# Altium footprint library connector_rjhse-x38x-02.PcbLib: 1 footprints
Each footprint in its own frame and in the unit in brackets; x right, y up, seen from the top. Pads: shape width x height; smd on the part's side, far side on the other; paste and mask are expansions set on the pad; w line width, h text height; cw(c..) or ccw(c..) is an arc to the next point about the centre after c.
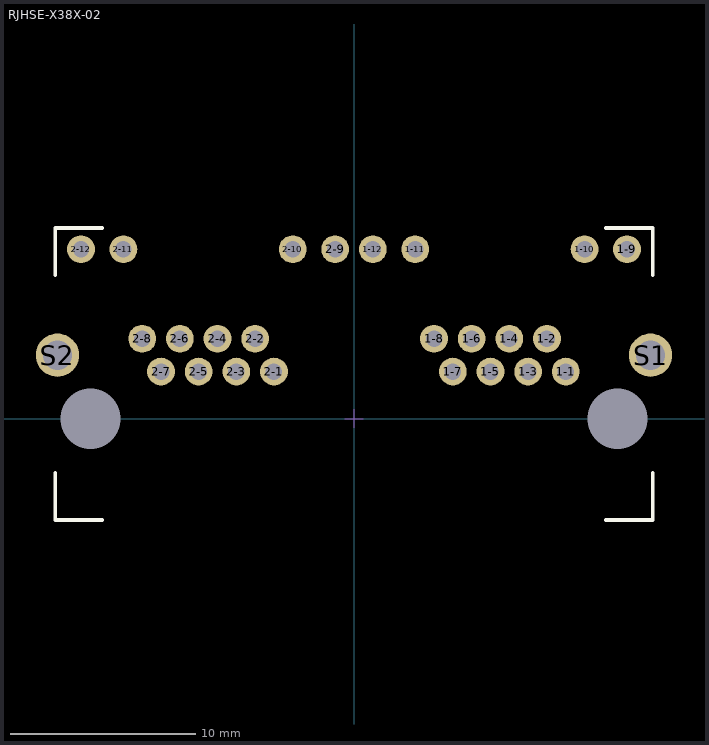
[diagram p0: the footprint, top view; thin cyan lines are the x and y axes]

## RJHSE-X38X-02 [mm]
pads (28):
  round 1.5 hole 0.89: 1-1(11.43,2.54) 1-2(10.414,4.318) 1-3(9.398,2.54) 1-4(8.382,4.318) 1-5(7.366,2.54) 1-6(6.35,4.318) 1-7(5.334,2.54) 1-8(4.318,4.318) 1-9(14.732,9.144) 1-10(12.446,9.144) 1-11(3.302,9.144) 1-12(1.016,9.144) 2-1(-4.318,2.54) 2-2(-5.334,4.318) 2-3(-6.35,2.54) 2-4(-7.366,4.318) 2-5(-8.382,2.54) 2-6(-9.398,4.318) 2-7(-10.414,2.54) 2-8(-11.43,4.318) 2-9(-1.016,9.144) 2-10(-3.302,9.144) 2-11(-12.446,9.144) 2-12(-14.732,9.144)
  round 0 hole 3.251 unplated: *(-14.224,0) *(14.224,0)
  round 2.337 hole 1.575: S1(16.002,3.429) S2(-16.002,3.429)
Top Overlay:
  lines w0.2: -16.129,-2.921 -16.129,-5.461 -13.589,-5.461 ; -16.129,7.747 -16.129,10.287 -13.589,10.287 ; 13.589,-5.461 16.129,-5.461 16.129,-2.921 ; 13.589,10.287 16.129,10.287 16.129,7.747
Mechanical 15:
  lines w0.05: -0.5,0 0.5,0 0,0 0,-0.5 0,0.5
3D body "615016137721_rev1.stp": height 14.52, standoff -3.5, extent -17.189,-6.095 17.189,10.455